# Altium schematic symbol library HW_HOLLAND_NCDM_MONITOR_R1.SchLib: 617 symbols (part 6 of 7)
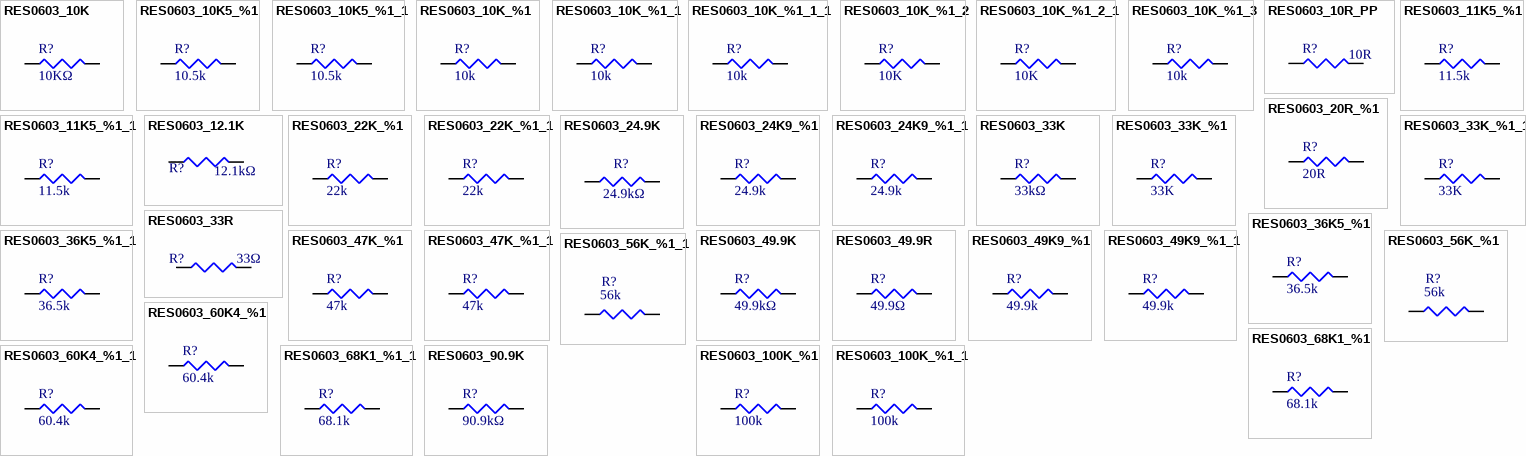
[diagram p24: symbols RES0603_10K to RES0603_100K_%1_1]

## RES0603_60K4_%1
designator R?, comment value 60.4k  (hidden comment: RES 60.4K OHM 1% 1/10W 0603)
60.4 kOhms ±1% 0.1W, 1/10W Chip Resistor 0603 (1608 Metric) Moisture Resistant Thick Film; Manufacturer Part Number: RC0603FR-0760K4L; Order Code: Digi: 311-60.4KHRTR-ND; Sirius Stock Code: *; LCSC Part Number: C165742; LCSC Manufacturer Part Number: RC0603FR-0760K4L
footprint SMR0603
pins: 1, 2

## RES0603_60K4_%1_1
designator R?, comment value 60.4k  (hidden comment: RES 60.4K OHM 1% 1/10W 0603)
60.4 kOhms ±1% 0.1W, 1/10W Chip Resistor 0603 (1608 Metric) Moisture Resistant Thick Film; Manufacturer Part Number: RC0603FR-0760K4L; Order Code: Digi: 311-60.4KHRTR-ND; Sirius Stock Code: *; LCSC Part Number: C165742; LCSC Manufacturer Part Number: RC0603FR-0760K4L
footprint SMR0603
pins: 1, 2

## RES0603_68K1_%1
designator R?, comment value 68.1k  (hidden comment: RES 68.1K OHM 1% 1/10W 0603)
68.1kΩ 100mW Thick Film Resistors ±1% 0603 Chip Resistor - Surface Mount ROHS; Manufacturer Part Number: 0603WAF6812T5E; Order Code: LCSC: C25976; Sirius Stock Code: *; LCSC Part Number: C25976; LCSC Manufacturer Part Number: 0603WAF6812T5E
footprint SMR0603
pins: 1, 2

## RES0603_68K1_%1_1
designator R?, comment value 68.1k  (hidden comment: RES 68.1K OHM 1% 1/10W 0603)
68.1kΩ 100mW Thick Film Resistors ±1% 0603 Chip Resistor - Surface Mount ROHS; Manufacturer Part Number: 0603WAF6812T5E; Order Code: LCSC: C25976; Sirius Stock Code: *; LCSC Part Number: C25976; LCSC Manufacturer Part Number: 0603WAF6812T5E
footprint SMR0603
pins: 1, 2

## RES0603_90.9K
designator R?, comment 90.9kΩ
90.9 kOhms ±1% 0.1W, 1/10W Chip Resistor 0603 (1608 Metric) Moisture Resistant Thick Film; Part Number: RC0603FR-1047KL; Manufacturer Part Number: RC0603FR-0790K9L; Manufacturer: Stackpole Electronics Inc; Tolerance: ±5%; Category 7542B8484461Ae85: Passive Components; Category 5A00970A6D5C81C7: Uncategorized; Category 5C6A91606D4187Ad: Resistors; Category Cd01000Bfc2916C6: Single Components; Symbol 0 0: Standard; Num Pins: 2; helpURL: https://upverter.com/upn/revision/974350d35a6c8a23/; ComponentLink2Description: Datasheet; Temperature: -55°C to +155°C; Package: 0603 (1608 metric); Supplier 2: Mouser; Price: 0.00379592162232; Supplier 1: Digi-Key; ComponentLink1URL: https://upverter.com/upn/revision/974350d35a6c8a23/; Supplier Part Number 1: 311-10KGRCT-ND; Value: 90.9kΩ; ComponentLink1Description: Upverter; ComponentLink2URL: http://www.yageo.com/documents/recent/PYu-RC_Group_51_RoHS_L_6.pdf; RoHS: TRUE; Mouser Part Number: 603-RC0603JR-0710KL; Ipc Land Pattern Name: RESC16080X45; Rated Power: 0.1W; Temperature Range High: +155°C; Octopart Part Number: 1fdcd61e8aa8c01b; Digikey Description: RES 10k Ohm ±5% 0.1W, 1/10W Chip Resistor 0603 (1608 Metric) Moisture Resistant Thick Film; Digikey Part Number: 311-10KGRCT-ND; Type: integrated circuit; Lead Free: yes; Temperature Range Low: -55°C
footprint R0603
pins: 1, 2

## RES0603_100K_%1
designator R?, comment value 100k  (hidden comment: RES 180K OHM 1% 1/10W 0603)
100 kOhms ±1% 0.1W, 1/10W Chip Resistor 0603 (1608 Metric) Moisture Resistant Thick Film; Manufacturer Part Number: RC0603FR-07100KL; Order Code: DIGI : 311-100KHRTR-ND; LCSC Manufacturer Part Number: RC0603FR-07100KL; LCSC Part Number: C123419
footprint SMR0603
pins: 1, 2

## RES0603_100K_%1_1
designator R?, comment value 100k  (hidden comment: RES 180K OHM 1% 1/10W 0603)
100 kOhms ±1% 0.1W, 1/10W Chip Resistor 0603 (1608 Metric) Moisture Resistant Thick Film; Manufacturer Part Number: RC0603FR-07100KL; Order Code: DIGI : 311-100KHRTR-ND; LCSC Manufacturer Part Number: RC0603FR-07100KL; LCSC Part Number: C123419
footprint SMR0603
pins: 1, 2

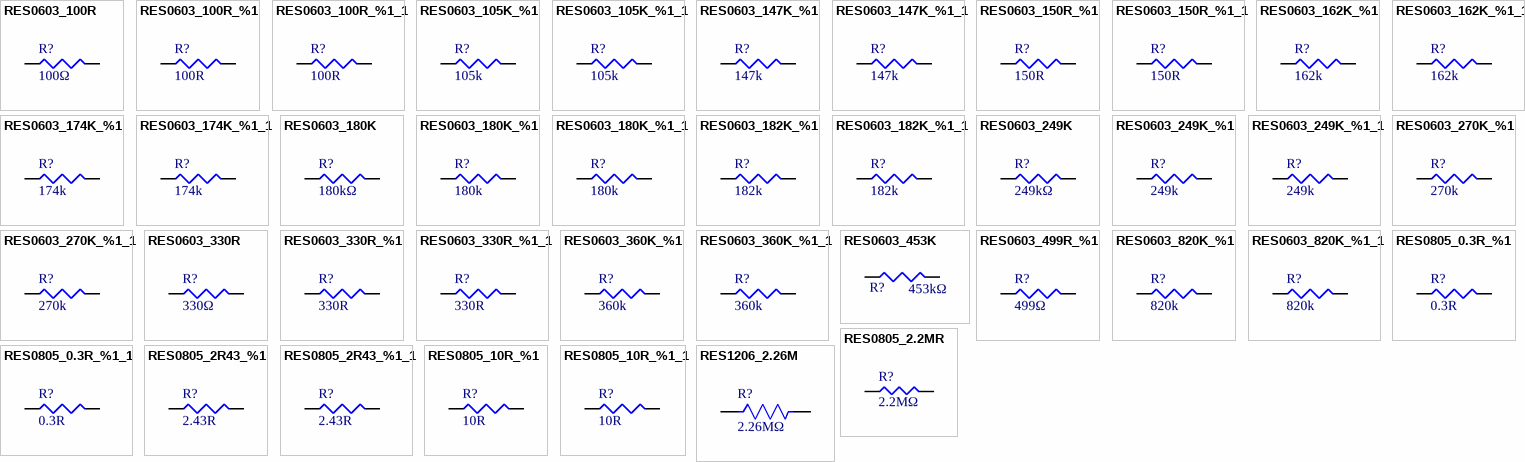
[diagram p14: symbols RES0603_100R to RES1206_2.26M]

## RES0603_100R
designator R?, comment 100Ω
100 Ohms ±1% 0.1W, 1/10W Chip Resistor 0603 (1608 Metric) Automotive AEC-Q200 Thick Film; Part Number: RC0603JR-0710KL; Manufacturer Part Number: RMCF0603FT100R; Manufacturer: YAGEO; Tolerance: ±5%; Category 7542B8484461Ae85: Passive Components; Category 5A00970A6D5C81C7: Uncategorized; Category 5C6A91606D4187Ad: Resistors; Category Cd01000Bfc2916C6: Single Components; Symbol 0 0: Standard; Num Pins: 2; Value: 100Ω; helpURL: https://upverter.com/upn/revision/974350d35a6c8a23/; ComponentLink2Description: Datasheet; Temperature: -55°C to +155°C; Package: 0603 (1608 metric); Supplier 2: Mouser; Price: 0.00379592162232; Supplier 1: Digi-Key; ComponentLink1URL: https://upverter.com/upn/revision/974350d35a6c8a23/; Supplier Part Number 1: 311-10KGRCT-ND; ComponentLink1Description: Upverter; ComponentLink2URL: http://www.yageo.com/documents/recent/PYu-RC_Group_51_RoHS_L_6.pdf; RoHS: TRUE; Mouser Part Number: 603-RC0603JR-0710KL; Ipc Land Pattern Name: RESC16080X45; Rated Power: 0.1W; Temperature Range High: +155°C; Octopart Part Number: 1fdcd61e8aa8c01b; Digikey Description: RES 10k Ohm ±5% 0.1W, 1/10W Chip Resistor 0603 (1608 Metric) Moisture Resistant Thick Film; Digikey Part Number: 311-10KGRCT-ND; Type: integrated circuit; Lead Free: yes; Temperature Range Low: -55°C
footprint R0603
pins: 1, 2

## RES0603_100R_%1
designator R?, comment value 100R  (hidden comment: RES 100 OHM 1% 1/10W 0603)
100 Ohms ±1% 0.1W, 1/10W Chip Resistor 0603 (1608 Metric) Moisture Resistant Thick Film; Manufacturer Part Number: RC0603FR-07100RL; Order Code: Digi: 311-100HRTR-ND; Sirius Stock Code: *; LCSC Part Number: C105588; LCSC Manufacturer Part Number: RC0603FR-07100RL
footprint SMR0603
pins: 1, 2

## RES0603_100R_%1_1
designator R?, comment value 100R  (hidden comment: RES 100 OHM 1% 1/10W 0603)
100 Ohms ±1% 0.1W, 1/10W Chip Resistor 0603 (1608 Metric) Moisture Resistant Thick Film; Manufacturer Part Number: RC0603FR-07100RL; Order Code: Digi: 311-100HRTR-ND; Sirius Stock Code: *; LCSC Part Number: C105588; LCSC Manufacturer Part Number: RC0603FR-07100RL
footprint SMR0603
pins: 1, 2

## RES0603_105K_%1
designator R?, comment value 105k  (hidden comment: RES 105K OHM 1% 1/10W 0603)
100mW Thick Film Resistors ±1% 105kΩ 0603 Chip Resistor - Surface Mount ROHS; Manufacturer Part Number: FRC0603F1053TS; Order Code: LCSC: C2933128; Sirius Stock Code: *; LCSC Part Number: C2933128; LCSC Manufacturer Part Number: FRC0603F1053TS
footprint SMR0603
pins: 1, 2

## RES0603_105K_%1_1
designator R?, comment value 105k  (hidden comment: RES 105K OHM 1% 1/10W 0603)
100mW Thick Film Resistors ±1% 105kΩ 0603 Chip Resistor - Surface Mount ROHS; Manufacturer Part Number: FRC0603F1053TS; Order Code: LCSC: C2933128; Sirius Stock Code: *; LCSC Part Number: C2933128; LCSC Manufacturer Part Number: FRC0603F1053TS
footprint SMR0603
pins: 1, 2

## RES0603_147K_%1
designator R?, comment value 147k  (hidden comment: RES 147K OHM 1% 1/10W 0603)
147kΩ 100mW Thick Film Resistors ±1% 0603 Chip Resistor - Surface Mount ROHS; Manufacturer Part Number: FRC0603F1473TS; Order Code: LCSC: C2998060; Sirius Stock Code: *; LCSC Part Number: C2998060; LCSC Manufacturer Part Number: FRC0603F1473TS
footprint SMR0603
pins: 1, 2

## RES0603_147K_%1_1
designator R?, comment value 147k  (hidden comment: RES 147K OHM 1% 1/10W 0603)
147kΩ 100mW Thick Film Resistors ±1% 0603 Chip Resistor - Surface Mount ROHS; Manufacturer Part Number: FRC0603F1473TS; Order Code: LCSC: C2998060; Sirius Stock Code: *; LCSC Part Number: C2998060; LCSC Manufacturer Part Number: FRC0603F1473TS
footprint SMR0603
pins: 1, 2

## RES0603_150R_%1
designator R?, comment value 150R  (hidden comment: RES 150 OHM 1% 1/10W 0603)
150 Ohms ±1% 0.1W, 1/10W Chip Resistor 0603 (1608 Metric) Moisture Resistant Thick Film; Manufacturer Part Number: RC0603FR-07150RL; Order Code: Digi: 311-150HRTR-ND; Sirius Stock Code: *; LCSC Part Number: C114608; LCSC Manufacturer Part Number: RC0603FR-07150RL
footprint SMR0603
pins: 1, 2

## RES0603_150R_%1_1
designator R?, comment value 150R  (hidden comment: RES 150 OHM 1% 1/10W 0603)
150 Ohms ±1% 0.1W, 1/10W Chip Resistor 0603 (1608 Metric) Moisture Resistant Thick Film; Manufacturer Part Number: RC0603FR-07150RL; Order Code: Digi: 311-150HRTR-ND; Sirius Stock Code: *; LCSC Part Number: C114608; LCSC Manufacturer Part Number: RC0603FR-07150RL
footprint SMR0603
pins: 1, 2

## RES0603_162K_%1
designator R?, comment value 162k  (hidden comment: RES 820K OHM 1% 1/10W 0603)
820 kOhms ±1% 0.1W, 1/10W Chip Resistor 0603 (1608 Metric) Moisture Resistant Thick Film; Manufacturer Part Number: FRC0603F1623TS; Order Code: LCSC: C2998114; Sirius Stock Code: *; LCSC Part Number: C2998114; LCSC Manufacturer Part Number: FRC0603F1623TS
footprint SMR0603
pins: 1, 2

## RES0603_162K_%1_1
designator R?, comment value 162k  (hidden comment: RES 820K OHM 1% 1/10W 0603)
820 kOhms ±1% 0.1W, 1/10W Chip Resistor 0603 (1608 Metric) Moisture Resistant Thick Film; Manufacturer Part Number: FRC0603F1623TS; Order Code: LCSC: C2998114; Sirius Stock Code: *; LCSC Part Number: C2998114; LCSC Manufacturer Part Number: FRC0603F1623TS
footprint SMR0603
pins: 1, 2

## RES0603_174K_%1
designator R?, comment value 174k  (hidden comment: RES 174K OHM 1% 1/10W 0603)
100mW Thick Film Resistors ±1% 174kΩ 0603 Chip Resistor - Surface Mount ROHS; Manufacturer Part Number: FRC0603F1743TS; Order Code: LCSC: C2933159; Sirius Stock Code: *; LCSC Part Number: C2933159; LCSC Manufacturer Part Number: FRC0603F1743TS
footprint SMR0603
pins: 1, 2

## RES0603_174K_%1_1
designator R?, comment value 174k  (hidden comment: RES 174K OHM 1% 1/10W 0603)
100mW Thick Film Resistors ±1% 174kΩ 0603 Chip Resistor - Surface Mount ROHS; Manufacturer Part Number: FRC0603F1743TS; Order Code: LCSC: C2933159; Sirius Stock Code: *; LCSC Part Number: C2933159; LCSC Manufacturer Part Number: FRC0603F1743TS
footprint SMR0603
pins: 1, 2

## RES0603_180K
designator R?, comment 180kΩ
180 kOhms ±1% 0.1W, 1/10W Chip Resistor 0603 (1608 Metric) Automotive AEC-Q200 Thick Film; Manufacturer Part Number: RMCF0603FT180K; Part Number: RC0603JR-0710KL; Manufacturer: YAGEO; Tolerance: ±5%; Category 7542B8484461Ae85: Passive Components; Category 5A00970A6D5C81C7: Uncategorized; Category 5C6A91606D4187Ad: Resistors; Category Cd01000Bfc2916C6: Single Components; Symbol 0 0: Standard; Num Pins: 2; Resistance: 330Ω; Value: 180kΩ; helpURL: https://upverter.com/upn/revision/974350d35a6c8a23/; ComponentLink2Description: Datasheet; Temperature: -55°C to +155°C; Package: 0603 (1608 metric); Supplier 2: Mouser; Price: 0.00379592162232; Supplier 1: Digi-Key; ComponentLink1URL: https://upverter.com/upn/revision/974350d35a6c8a23/; Supplier Part Number 1: 311-10KGRCT-ND; ComponentLink1Description: Upverter; ComponentLink2URL: http://www.yageo.com/documents/recent/PYu-RC_Group_51_RoHS_L_6.pdf; RoHS: TRUE; Mouser Part Number: 603-RC0603JR-0710KL; Ipc Land Pattern Name: RESC16080X45; Rated Power: 0.1W; Temperature Range High: +155°C; Octopart Part Number: 1fdcd61e8aa8c01b; Digikey Description: RES 10k Ohm ±5% 0.1W, 1/10W Chip Resistor 0603 (1608 Metric) Moisture Resistant Thick Film; Digikey Part Number: 311-10KGRCT-ND; Type: integrated circuit; Lead Free: yes; Temperature Range Low: -55°C
footprint R0603
pins: 1, 2

## RES0603_180K_%1
designator R?, comment value 180k  (hidden comment: RES 180K OHM 1% 1/10W 0603)
180 kOhms ±1% 0.1W, 1/10W Chip Resistor 0603 (1608 Metric) Moisture Resistant Thick Film; Manufacturer Part Number: RC0603FR-07180KL; Order Code: DIGI : 311-180KHRTR-ND; LCSC Manufacturer Part Number: RC0603FR-07180KL; LCSC Part Number: C123419
footprint SMR0603
pins: 1, 2

## RES0603_180K_%1_1
designator R?, comment value 180k  (hidden comment: RES 180K OHM 1% 1/10W 0603)
180 kOhms ±1% 0.1W, 1/10W Chip Resistor 0603 (1608 Metric) Moisture Resistant Thick Film; Manufacturer Part Number: RC0603FR-07180KL; Order Code: DIGI : 311-180KHRTR-ND; LCSC Manufacturer Part Number: RC0603FR-07180KL; LCSC Part Number: C123419
footprint SMR0603
pins: 1, 2

## RES0603_182K_%1
designator R?, comment value 182k  (hidden comment: RES 182K OHM 1% 1/10W 0603)
182 kOhms ±1% 0.1W, 1/10W Chip Resistor 0603 (1608 Metric) Moisture Resistant Thick Film; Manufacturer Part Number: RC0603FR-07182KL; Order Code: Digi: 311-182KHRTR-ND; Sirius Stock Code: *; LCSC Part Number: C163428; LCSC Manufacturer Part Number: RC0603FR-07182KL
footprint SMR0603
pins: 1, 2

## RES0603_182K_%1_1
designator R?, comment value 182k  (hidden comment: RES 182K OHM 1% 1/10W 0603)
182 kOhms ±1% 0.1W, 1/10W Chip Resistor 0603 (1608 Metric) Moisture Resistant Thick Film; Manufacturer Part Number: RC0603FR-07182KL; Order Code: Digi: 311-182KHRTR-ND; Sirius Stock Code: *; LCSC Part Number: C163428; LCSC Manufacturer Part Number: RC0603FR-07182KL
footprint SMR0603
pins: 1, 2

## RES0603_249K
designator R?, comment 249kΩ
249 kOhms ±1% 0.1W, 1/10W Chip Resistor 0603 (1608 Metric) Automotive AEC-Q200 Thick Film; Part Number: RC0603JR-0710KL; Manufacturer Part Number: RMCF0603FT249K; Manufacturer: YAGEO; Value: 10KΩ; Tolerance: ±5%; Category 7542B8484461Ae85: Passive Components; Category 5A00970A6D5C81C7: Uncategorized; Category 5C6A91606D4187Ad: Resistors; Category Cd01000Bfc2916C6: Single Components; Symbol 0 0: Standard; Num Pins: 2; helpURL: https://upverter.com/upn/revision/974350d35a6c8a23/; ComponentLink2Description: Datasheet; Temperature: -55°C to +155°C; Package: 0603 (1608 metric); Supplier 2: Mouser; Price: 0.00379592162232; Supplier 1: Digi-Key; ComponentLink1URL: https://upverter.com/upn/revision/974350d35a6c8a23/; Supplier Part Number 1: 311-10KGRCT-ND; ComponentLink1Description: Upverter; ComponentLink2URL: http://www.yageo.com/documents/recent/PYu-RC_Group_51_RoHS_L_6.pdf; RoHS: TRUE; Mouser Part Number: 603-RC0603JR-0710KL; Ipc Land Pattern Name: RESC16080X45; Rated Power: 0.1W; Temperature Range High: +155°C; Octopart Part Number: 1fdcd61e8aa8c01b; Digikey Description: RES 10k Ohm ±5% 0.1W, 1/10W Chip Resistor 0603 (1608 Metric) Moisture Resistant Thick Film; Digikey Part Number: 311-10KGRCT-ND; Type: integrated circuit; Lead Free: yes; Temperature Range Low: -55°C; Resistance: 10KΩ
footprint R0603
pins: 1, 2

## RES0603_249K_%1
designator R?, comment value 249k  (hidden comment: RES 249K OHM 1% 1/10W 0603)
249 kOhms ±1% 0.1W, 1/10W Chip Resistor 0603 (1608 Metric) Moisture Resistant Thick Film; Manufacturer Part Number: RC0603FR-07249KL; Order Code: Digi: 311-249KHRTR-ND; Sirius Stock Code: *; LCSC Part Number: C137763; LCSC Manufacturer Part Number: RC0603FR-07249KL
footprint SMR0603
pins: 1, 2

## RES0603_249K_%1_1
designator R?, comment value 249k  (hidden comment: RES 249K OHM 1% 1/10W 0603)
249 kOhms ±1% 0.1W, 1/10W Chip Resistor 0603 (1608 Metric) Moisture Resistant Thick Film; Manufacturer Part Number: RC0603FR-07249KL; Order Code: Digi: 311-249KHRTR-ND; Sirius Stock Code: *; LCSC Part Number: C137763; LCSC Manufacturer Part Number: RC0603FR-07249KL
footprint SMR0603
pins: 1, 2

## RES0603_270K_%1
designator R?, comment value 270k  (hidden comment: RES 270K OHM 1% 1/10W 0603)
270 kOhms ±1% 0.1W, 1/10W Chip Resistor 0603 (1608 Metric) Moisture Resistant Thick Film; Manufacturer Part Number: RC0603FR-07270KL; Order Code: Digi: 311-270KHRTR-ND; Sirius Stock Code: *; LCSC Part Number: C137755; LCSC Manufacturer Part Number: RC0603FR-07270KL
footprint SMR0603
pins: 1, 2

## RES0603_270K_%1_1
designator R?, comment value 270k  (hidden comment: RES 270K OHM 1% 1/10W 0603)
270 kOhms ±1% 0.1W, 1/10W Chip Resistor 0603 (1608 Metric) Moisture Resistant Thick Film; Manufacturer Part Number: RC0603FR-07270KL; Order Code: Digi: 311-270KHRTR-ND; Sirius Stock Code: *; LCSC Part Number: C137755; LCSC Manufacturer Part Number: RC0603FR-07270KL
footprint SMR0603
pins: 1, 2

## RES0603_330R
designator R?, comment 330Ω
330 Ohms ±1% 0.1W, 1/10W Chip Resistor 0603 (1608 Metric) Moisture Resistant Thick Film; Part Number: RC0603JR-0710KL; Manufacturer Part Number: RC0603FR-07330RL; Manufacturer: YAGEO; Tolerance: ±5%; Category 7542B8484461Ae85: Passive Components; Category 5A00970A6D5C81C7: Uncategorized; Category 5C6A91606D4187Ad: Resistors; Category Cd01000Bfc2916C6: Single Components; Symbol 0 0: Standard; Num Pins: 2; helpURL: https://upverter.com/upn/revision/974350d35a6c8a23/; ComponentLink2Description: Datasheet; Temperature: -55°C to +155°C; Package: 0603 (1608 metric); Supplier 2: Mouser; Price: 0.00379592162232; Supplier 1: Digi-Key; ComponentLink1URL: https://upverter.com/upn/revision/974350d35a6c8a23/; Supplier Part Number 1: 311-10KGRCT-ND; Value: 330Ω; ComponentLink1Description: Upverter; ComponentLink2URL: http://www.yageo.com/documents/recent/PYu-RC_Group_51_RoHS_L_6.pdf; RoHS: TRUE; Mouser Part Number: 603-RC0603JR-0710KL; Ipc Land Pattern Name: RESC16080X45; Rated Power: 0.1W; Temperature Range High: +155°C; Octopart Part Number: 1fdcd61e8aa8c01b; Digikey Description: RES 10k Ohm ±5% 0.1W, 1/10W Chip Resistor 0603 (1608 Metric) Moisture Resistant Thick Film; Digikey Part Number: 311-10KGRCT-ND; Type: integrated circuit; Lead Free: yes; Temperature Range Low: -55°C
footprint R0603
pins: 1, 2

## RES0603_330R_%1
designator R?, comment value 330R  (hidden comment: RES 330 OHM 1% 1/10W 0603)
330 Ohms ±1% 0.1W, 1/10W Chip Resistor 0603 (1608 Metric) Automotive AEC-Q200 Thick Film; Manufacturer Part Number: RMCF0603FT330R; LCSC Manufacturer Part Number: SCR0603F330R; Order Code: Digi: RMCF0603FT330RTR-ND; Sirius Stock Code: *; LCSC Part Number: C3016255
footprint RES0603 (RESISTOR 0603)
pins: 1, 2

## RES0603_330R_%1_1
designator R?, comment value 330R  (hidden comment: RES 330 OHM 1% 1/10W 0603)
330 Ohms ±1% 0.1W, 1/10W Chip Resistor 0603 (1608 Metric) Automotive AEC-Q200 Thick Film; Manufacturer Part Number: RMCF0603FT330R; LCSC Manufacturer Part Number: SCR0603F330R; Order Code: Digi: RMCF0603FT330RTR-ND; Sirius Stock Code: *; LCSC Part Number: C3016255
footprint RES0603 (RESISTOR 0603)
pins: 1, 2

## RES0603_360K_%1
designator R?, comment value 360k  (hidden comment: RES 270K OHM 1% 1/10W 0603)
360 kOhms ±1% 0.1W, 1/10W Chip Resistor 0603 (1608 Metric) Moisture Resistant Thick Film; Manufacturer Part Number: RC0603FR-07360KL; Order Code: Digi: 311-360KHRTR-ND; Sirius Stock Code: *; LCSC Part Number: C137740; LCSC Manufacturer Part Number: RC0603FR-07360KL
footprint SMR0603
pins: 1, 2

## RES0603_360K_%1_1
designator R?, comment value 360k  (hidden comment: RES 270K OHM 1% 1/10W 0603)
360 kOhms ±1% 0.1W, 1/10W Chip Resistor 0603 (1608 Metric) Moisture Resistant Thick Film; Manufacturer Part Number: RC0603FR-07360KL; Order Code: Digi: 311-360KHRTR-ND; Sirius Stock Code: *; LCSC Part Number: C137740; LCSC Manufacturer Part Number: RC0603FR-07360KL
footprint SMR0603
pins: 1, 2

## RES0603_453K
designator R?, comment 453kΩ
453 kOhms ±1% 0.1W, 1/10W Chip Resistor 0603 (1608 Metric) Moisture Resistant Thick Film; Part Number: RC0603FR-07453KL; Manufacturer Part Number: RC0603FR-07432KL; Manufacturer: YAGEO; Value: 24.9kΩ; Tolerance: ±5%; Category 7542B8484461Ae85: Passive Components; Category 5A00970A6D5C81C7: Uncategorized; Category 5C6A91606D4187Ad: Resistors; Category Cd01000Bfc2916C6: Single Components; Symbol 0 0: Standard; Num Pins: 2; helpURL: https://upverter.com/upn/revision/974350d35a6c8a23/; ComponentLink2Description: Datasheet; Temperature: -55°C to +155°C; Package: 0603 (1608 metric); Supplier 2: Mouser; Price: 0.00379592162232; Supplier 1: Digi-Key; ComponentLink1URL: https://upverter.com/upn/revision/974350d35a6c8a23/; Supplier Part Number 1: 311-10KGRCT-ND; ComponentLink1Description: Upverter; ComponentLink2URL: http://www.yageo.com/documents/recent/PYu-RC_Group_51_RoHS_L_6.pdf; RoHS: TRUE; Mouser Part Number: 603-RC0603JR-0710KL; Ipc Land Pattern Name: RESC16080X45; Rated Power: 0.1W; Temperature Range High: +155°C; Octopart Part Number: 1fdcd61e8aa8c01b; Digikey Description: RES 10k Ohm ±5% 0.1W, 1/10W Chip Resistor 0603 (1608 Metric) Moisture Resistant Thick Film; Digikey Part Number: 311-10KGRCT-ND; Type: integrated circuit; Lead Free: yes; Temperature Range Low: -55°C
footprint R0603
pins: 1, 2

## RES0603_499R_%1
designator R?, comment 499Ω
499 Ohms ±1% 0.1W, 1/10W Chip Resistor 0603 (1608 Metric) Moisture Resistant Thick Film; Manufacturer Part Number: CR0603-FX-2492ELF; Part Number: RC0603FR-07499RL; Manufacturer: YAGEO; Tolerance: ±5%; Category 7542B8484461Ae85: Passive Components; Category 5A00970A6D5C81C7: Uncategorized; Category 5C6A91606D4187Ad: Resistors; Category Cd01000Bfc2916C6: Single Components; Symbol 0 0: Standard; Num Pins: 2; Value: 499Ω; helpURL: https://upverter.com/upn/revision/974350d35a6c8a23/; ComponentLink2Description: Datasheet; Temperature: -55°C to +155°C; Package: 0603 (1608 metric); Supplier 2: Mouser; Price: 0.00379592162232; Supplier 1: Digi-Key; ComponentLink1URL: https://upverter.com/upn/revision/974350d35a6c8a23/; Supplier Part Number 1: 311-10KGRCT-ND; ComponentLink1Description: Upverter; ComponentLink2URL: http://www.yageo.com/documents/recent/PYu-RC_Group_51_RoHS_L_6.pdf; RoHS: TRUE; Mouser Part Number: 603-RC0603JR-0710KL; Ipc Land Pattern Name: RESC16080X45; Rated Power: 0.1W; Temperature Range High: +155°C; Octopart Part Number: 1fdcd61e8aa8c01b; Digikey Description: RES 10k Ohm ±5% 0.1W, 1/10W Chip Resistor 0603 (1608 Metric) Moisture Resistant Thick Film; Digikey Part Number: 311-10KGRCT-ND; Type: integrated circuit; Lead Free: yes; Temperature Range Low: -55°C
footprint R0603
pins: 1, 2

## RES0603_820K_%1
designator R?, comment value 820k  (hidden comment: RES 820K OHM 1% 1/10W 0603)
820 kOhms ±1% 0.1W, 1/10W Chip Resistor 0603 (1608 Metric) Moisture Resistant Thick Film; Manufacturer Part Number: RC0603FR-07820KL; Order Code: Digi: 311-820KHRTR-ND; Sirius Stock Code: *; LCSC Part Number: C141684; LCSC Manufacturer Part Number: RC0603FR-07820KL
footprint SMR0603
pins: 1, 2

## RES0603_820K_%1_1
designator R?, comment value 820k  (hidden comment: RES 820K OHM 1% 1/10W 0603)
820 kOhms ±1% 0.1W, 1/10W Chip Resistor 0603 (1608 Metric) Moisture Resistant Thick Film; Manufacturer Part Number: RC0603FR-07820KL; Order Code: Digi: 311-820KHRTR-ND; Sirius Stock Code: *; LCSC Part Number: C141684; LCSC Manufacturer Part Number: RC0603FR-07820KL
footprint SMR0603
pins: 1, 2

## RES0805_0.3R_%1
designator R?, comment value 0.3R  (hidden comment: 125mW Thick Film Resistors ±1% 300mΩ 0805 Chip Resistor - Surface Mount ROHS)
Manufacturer Part Number: 0805W8F300LT5E; Order Code: LCSC: C247157; LCSC Manufacturer Part Number: 0805W8F300LT5E; LCSC Part Number: C247157
footprint SMR0805
pins: 1, 2

## RES0805_0.3R_%1_1
designator R?, comment value 0.3R  (hidden comment: 125mW Thick Film Resistors ±1% 300mΩ 0805 Chip Resistor - Surface Mount ROHS)
Manufacturer Part Number: 0805W8F300LT5E; Order Code: LCSC: C247157; LCSC Manufacturer Part Number: 0805W8F300LT5E; LCSC Part Number: C247157
footprint SMR0805
pins: 1, 2

## RES0805_2.2MR
designator R?, comment 2.2MΩ
2.2 MOhms ±0.1% 0.125W, 1/8W Chip Resistor 0805 (2012 Metric) Anti-Sulfur, Automotive AEC-Q200 Thin Film; Manufacturer_Name: Susumu; Manufacturer_Part_Number: RG2012P-225-B-T5; Datasheet Link: https://4donline.ihs.com/images/VipMasterIC/IC/YAGO/YAGO-S-A0010774850/YAGO-S-A0010774850-1.pdf?hkey=6D3A4C79FDBF58556ACFDE234799DDF0; Height: 0.6mm; LCSC Part Number: C114572
footprint RES0805
pins: 1, 2

## RES0805_2R43_%1
designator R?, comment value 2.43R  (hidden comment: 125mW Thick Film Resistors ±1% 2.43Ω 0805 Chip Resistor - Surface Mount ROHS)
Manufacturer Part Number: FRC0805F2R43TS; Order Code: LCSC: C2933405; LCSC Manufacturer Part Number: FRC0805F2R43TS; LCSC Part Number: C2933405
footprint SMR0805
pins: 1, 2

## RES0805_2R43_%1_1
designator R?, comment value 2.43R  (hidden comment: 125mW Thick Film Resistors ±1% 2.43Ω 0805 Chip Resistor - Surface Mount ROHS)
Manufacturer Part Number: FRC0805F2R43TS; Order Code: LCSC: C2933405; LCSC Manufacturer Part Number: FRC0805F2R43TS; LCSC Part Number: C2933405
footprint SMR0805
pins: 1, 2

## RES0805_10R_%1
designator R?, comment value 10R  (hidden comment: 125mW Thick Film Resistors ±1% 10Ω 0805 Chip Resistor - Surface Mount ROHS)
Manufacturer Part Number: 0805W8F100JT5E; Order Code: LCSC: C17415; LCSC Manufacturer Part Number: 0805W8F100JT5E; LCSC Part Number: C17415
footprint SMR0805
pins: 1, 2

## RES0805_10R_%1_1
designator R?, comment value 10R  (hidden comment: 125mW Thick Film Resistors ±1% 10Ω 0805 Chip Resistor - Surface Mount ROHS)
Manufacturer Part Number: 0805W8F100JT5E; Order Code: LCSC: C17415; LCSC Manufacturer Part Number: 0805W8F100JT5E; LCSC Part Number: C17415
footprint SMR0805
pins: 1, 2

## RES1206_2.26M
designator R?, comment 2.26MΩ
2.26 MOhms ±1% 0.25W, 1/4W Chip Resistor 1206 (3216 Metric) Moisture Resistant Thick Film; Manufacturer Part Number: RC1206FR-072M26L; Manufacturer: YAGEO; Value: 2.26MΩ
footprint RES1206
pins: 1, 2

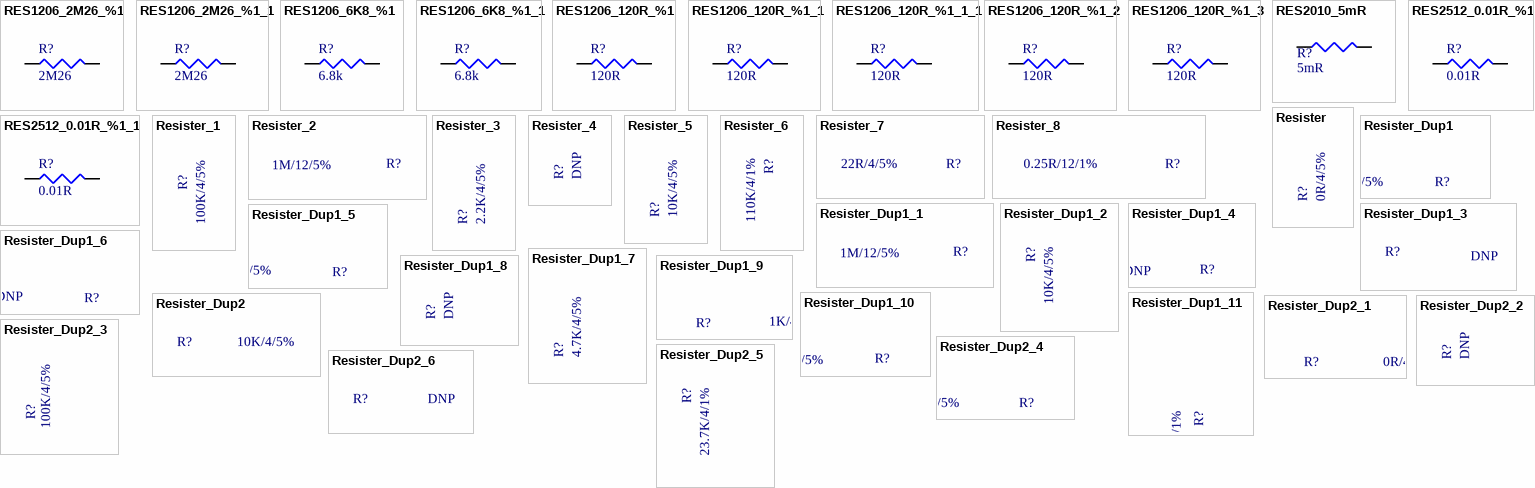
[diagram p15: symbols RES1206_2M26_%1 to Resister_Dup2_6]

## RES1206_2M26_%1
designator R?, comment value 2M26  (hidden comment: RES 2.26M OHM 1% 1/4W 1206)
2.26 MOhms ±1% 0.25W, 1/4W Chip Resistor 1206 (3216 Metric) Moisture Resistant Thick Film; Manufacturer Part Number: RC1206FR-072M26L; Order Code: Digi: 311-2.26MFRTR-ND; LCSC Part Number: C488699; LCSC Manufacturer Part Number: RC1206FR-072M26L
footprint RES1206 (RESISTOR 1206)
pins: 1, 2

## RES1206_2M26_%1_1
designator R?, comment value 2M26  (hidden comment: RES 2.26M OHM 1% 1/4W 1206)
2.26 MOhms ±1% 0.25W, 1/4W Chip Resistor 1206 (3216 Metric) Moisture Resistant Thick Film; Manufacturer Part Number: RC1206FR-072M26L; Order Code: Digi: 311-2.26MFRTR-ND; LCSC Part Number: C488699; LCSC Manufacturer Part Number: RC1206FR-072M26L
footprint RES1206 (RESISTOR 1206)
pins: 1, 2

## RES1206_6K8_%1
designator R?, comment value 6.8k  (hidden comment: RES 6.8K OHM 1% 1/4W 1206)
6.8 kOhms ±1% 0.25W, 1/4W Chip Resistor 1206 (3216 Metric) Moisture Resistant Thick Film; Manufacturer Part Number: RC1206FR-076K8L; Order Code: Digi: 311-6.80KFRTR-ND; Sirius Stock Code: *; LCSC Manufacturer Part Number: RC1206FR-076K8L; LCSC Part Number: C246053
footprint SMR1206
footprint RES1206
pins: 1, 2

## RES1206_6K8_%1_1
designator R?, comment value 6.8k  (hidden comment: RES 6.8K OHM 1% 1/4W 1206)
6.8 kOhms ±1% 0.25W, 1/4W Chip Resistor 1206 (3216 Metric) Moisture Resistant Thick Film; Manufacturer Part Number: RC1206FR-076K8L; Order Code: Digi: 311-6.80KFRTR-ND; Sirius Stock Code: *; LCSC Manufacturer Part Number: RC1206FR-076K8L; LCSC Part Number: C246053
footprint SMR1206
footprint RES1206
pins: 1, 2

## RES1206_120R_%1
designator R?, comment value 120R  (hidden comment: RES SMD 120 OHM 1% 1/4W 1206)
120 Ohms ±1% 0.25W, 1/4W Chip Resistor 1206 (3216 Metric) Automotive AEC-Q200, Moisture Resistant Thick Film; Manufacturer Part Number: AC1206FR-07120RL; Order Code: Digi: YAG3810TR-ND; Sirius Stock Code: *; LCSC Manufacturer Part Number: AC1206FR-07120RL; LCSC Part Number: C229293
footprint SMR1206
footprint RES1206
pins: 1, 2

## RES1206_120R_%1_1
designator R?, comment value 120R  (hidden comment: RES SMD 120 OHM 1% 1/4W 1206)
120 Ohms ±1% 0.25W, 1/4W Chip Resistor 1206 (3216 Metric) Automotive AEC-Q200, Moisture Resistant Thick Film; Manufacturer Part Number: AC1206FR-07120RL; Order Code: Digi: YAG3810TR-ND; Sirius Stock Code: *; LCSC Manufacturer Part Number: AC1206FR-07120RL; LCSC Part Number: C229293
footprint RES1206
pins: 1, 2

## RES1206_120R_%1_1_1
designator R?, comment value 120R  (hidden comment: RES SMD 120 OHM 1% 1/4W 1206)
120 Ohms ±1% 0.25W, 1/4W Chip Resistor 1206 (3216 Metric) Automotive AEC-Q200, Moisture Resistant Thick Film; Manufacturer Part Number: AC1206FR-07120RL; Order Code: Digi: YAG3810TR-ND; Sirius Stock Code: *; LCSC Manufacturer Part Number: AC1206FR-07120RL; LCSC Part Number: C229293
footprint RES1206
pins: 1, 2

## RES1206_120R_%1_2
designator R?, comment value 120R  (hidden comment: RES SMD 120 OHM 1% 1/4W 1206)
120 Ohms ±1% 0.25W, 1/4W Chip Resistor 1206 (3216 Metric) Automotive AEC-Q200, Moisture Resistant Thick Film; Manufacturer Part Number: AC1206FR-07120RL; Order Code: Digi: YAG3810TR-ND; Sirius Stock Code: *; LCSC Manufacturer Part Number: AC1206FR-07120RL; LCSC Part Number: C229293
footprint SMR1206
footprint RES1206
pins: 1, 2

## RES1206_120R_%1_3
designator R?, comment value 120R  (hidden comment: RES SMD 120 OHM 1% 1/2W 1206)
120 Ohms ±1% 0.5W, 1/2W Chip Resistor 1206 (3216 Metric) Thick Film; Manufacturer Part Number: CRGH1206F120R; Order Code: Digi: A129547TR-ND; Sirius Stock Code: *
footprint RES1206
pins: 1, 2

## RES2010_5mR
designator R?, comment 5mR
5 mOhms ±1% 2W Chip Resistor 2010 (5025 Metric) Anti-Sulfur, Automotive AEC-Q200, Current Sense, Moisture Resistant, Pulse Withstanding Metal Element; P/N: WSLP20105L000FEA; Order Code: DIGI : 541-10107-1-ND; Value: 5mR 2W
footprint RES2010
pins: 1, 2

## RES2512_0.01R_%1
designator R?, comment value 0.01R  (hidden comment: RES 0.01 OHM 1% 2W 2512)
10 mOhms ±1% 2W Chip Resistor 2512 (6432 Metric) Automotive AEC-Q200, Current Sense, Moisture Resistant Metal Foil; Manufacturer Part Number: PE2512FKE7W0R01L; Order Code: Digi: YAG2167TR-ND; Sirius Stock Code: *; LCSC Part Number: C875720; LCSC Manufacturer Part Number: PE2512FKE7W0R01L
footprint Bourns_CRE2512-R005-R009_MFG
pins: 1, 2

## RES2512_0.01R_%1_1
designator R?, comment value 0.01R  (hidden comment: RES 0.01 OHM 1% 2W 2512)
10 mOhms ±1% 2W Chip Resistor 2512 (6432 Metric) Automotive AEC-Q200, Current Sense, Moisture Resistant Metal Foil; Manufacturer Part Number: PE2512FKE7W0R01L; Order Code: Digi: YAG2167TR-ND; Sirius Stock Code: *; LCSC Part Number: C875720; LCSC Manufacturer Part Number: PE2512FKE7W0R01L
footprint Bourns_CRE2512-R005-R009_MFG
pins: 1, 2

## Resister
designator R?, comment 0R/4/5%
Thick Film Resistor,0R,+/-5%,1/16W,-55¡æ~155¡æ,SMD,0402,Fenghua; Manufacturer P/N: RC-02000JT; PCB Footprint: R0402; Myir P/N: 20301.00186; Datasheet: FHsheet_2018-07-30.PDF; Reserve Value: 0R; Manufacturer: Fenghua; Part Type: Thick Film Resistor
footprint R0402

## Resister_1
designator R?, comment 100K/4/5%
Thick Film Resistor,100K,+/-5%,,1/16W,-55¡ãC ~ 155¡ãC,SMD,0402,Fenghua; Manufacturer P/N: RC-02W104JT; PCB Footprint: R0402; Myir P/N: 20301.00210; Part Type: Thick Film Resistor; Manufacturer: Fenghua; Reserve Value: 100K; Datasheet: FHsheet_2018-07-30.PDF
footprint R0402

## Resister_2
designator R?, comment 1M/12/5%
Thick Film Resistor,1M,+/-5%,1/4W,-55¡ãC ~ 155¡ãC,SMD,1206,Fenghua; Manufacturer P/N: RS-06K105JT; PCB Footprint: R1206; Myir P/N: 20301.00226; Datasheet: FHsheet_2018-07-30.PDF; Reserve Value: 1M; Manufacturer: Fenghua; Part Type: Thick Film Resistor
footprint R1206

## Resister_3
designator R?, comment 2.2K/4/5%
Thick Film Resistor,2.2K,+/-5%,1/16W,-55¡æ~155¡æ,SMD,0402,Fenghua; Manufacturer P/N: RC-02W222JT; Myir P/N: 20301.00195; PCB Footprint: R0402; Datasheet: FHsheet_2018-07-30.PDF; Reserve Value: 2.2K; Manufacturer: Fenghua; Part Type: Thick Film Resistor
footprint R0402

## Resister_4
designator R?, comment DNP
Thick Film Resistor,10K,+/-5%,1/16W,-55¡ãC ~ 155¡ãC,SMD,0402,Fenghua; Manufacturer P/N: RC-02W103JT; Myir P/N: 20301.00199; PCB Footprint: R0402; Datasheet: FHsheet_2018-07-30.PDF; Reserve Value: 10K; Manufacturer: Fenghua; Part Type: Thick Film Resistor
footprint R0402

## Resister_5
designator R?, comment 10K/4/5%
Thick Film Resistor,10K,+/-5%,1/16W,-55¡ãC ~ 155¡ãC,SMD,0402,Fenghua; Manufacturer P/N: RC-02W103JT; Myir P/N: 20301.00199; PCB Footprint: R0402; Datasheet: FHsheet_2018-07-30.PDF; Reserve Value: 10K; Manufacturer: Fenghua; Part Type: Thick Film Resistor
footprint R0402

## Resister_6
designator R?, comment 110K/4/1%
Thick Film Resistor,110K,1%,1/16W ,-55 ¡ãC ~155¡ãC ,0402,Fenghua; Manufacturer P/N: RC-02W1103FT; Myir P/N: 20301.00280; PCB Footprint: R0402; Datasheet: FHsheet_2018-07-30.PDF; Reserve Value: 110K; Manufacturer: Fenghua; Part Type: Thick Film Resistor
footprint R0402

## Resister_7
designator R?, comment 22R/4/5%
Thick Film Resistor,22R,+/-5%,1/16W,-55¡ãC ~ 155¡ãC,SMD,0402,Fenghua; Manufacturer P/N: RC-02W220JT; PCB Footprint: R0402; Myir P/N: 20301.00187; Part Type: Thick Film Resistor; Manufacturer: Fenghua; Reserve Value: 22R; Datasheet: FH¹æ¸ñÊé_2018-07-30.pdf
footprint R0402

## Resister_8
designator R?, comment 0.25R/12/1%
Thick Film Resistor,0.25R,+/-1%,1/4W,-55¡ãC ~ 155¡ãC,SMD,1206,Fenghua; Manufacturer P/N: RS-06MR250FT; Myir P/N: 20301.80403; PCB Footprint: R1206; Part Type: Thick Film Resistor; Manufacturer: Fenghua; Reserve Value: 0.25R; Datasheet: FHsheet_2018-07-30.PDF
footprint R1206

## Resister_Dup1
designator R?, comment 100K/4/5%
Thick Film Resistor,100K,+/-5%,,1/16W,-55¡ãC ~ 155¡ãC,SMD,0402,Fenghua; Manufacturer P/N: RC-02W104JT; Myir P/N: 20301.00210; PCB Footprint: R0402; Datasheet: FHsheet_2018-07-30.PDF; Reserve Value: 100K; Manufacturer: Fenghua; Part Type: Thick Film Resistor
footprint R0402

## Resister_Dup1_1
designator R?, comment 1M/12/5%
Thick Film Resistor,1M,+/-5%,1/4W,-55¡ãC ~ 155¡ãC,SMD,1206,Fenghua; Manufacturer P/N: RS-06K105JT; Myir P/N: 20301.00226; PCB Footprint: R1206; Part Type: Thick Film Resistor; Manufacturer: Fenghua; Reserve Value: 1M; Datasheet: FH¹æ¸ñÊé_2018-07-30.pdf
footprint R1206

## Resister_Dup1_2
designator R?, comment 10K/4/5%
Thick Film Resistor,10K,+/-5%,1/16W,-55¡ãC ~ 155¡ãC,SMD,0402,Fenghua; Manufacturer P/N: RC-02W103JT; Myir P/N: 20301.00199; PCB Footprint: R0402; Datasheet: FH¹æ¸ñÊé_2018-07-30.pdf; Reserve Value: 10K; Manufacturer: Fenghua; Part Type: Thick Film Resistor
footprint R0402

## Resister_Dup1_3
designator R?, comment DNP
Thick Film Resistor,10K,+/-5%,1/16W,-55¡ãC ~ 155¡ãC,SMD,0402,Fenghua; Manufacturer P/N: RC-02W103JT; Myir P/N: 20301.00199; PCB Footprint: R0402; Datasheet: FH¹æ¸ñÊé_2018-07-30.pdf; Reserve Value: 10K; Manufacturer: Fenghua; Part Type: Thick Film Resistor
footprint R0402

## Resister_Dup1_4
designator R?, comment DNP
Thick Film Resistor,1.5K,+/-5%,1/16W,-55¡ãC ~ 155¡ãC,SMD,0402,Fenghua; Manufacturer P/N: RC-02W152JT; Myir P/N: 20301.00194; PCB Footprint: R0402; Datasheet: FH¹æ¸ñÊé_2018-07-30.pdf; Reserve Value: 1.5K; Manufacturer: Fenghua; Part Type: Thick Film Resistor
footprint R0402

## Resister_Dup1_5
designator R?, comment 0R/4/5%
Thick Film Resistor,0R,+/-5%,1/16W,-55¡æ~155¡æ,SMD,0402,Fenghua; Manufacturer P/N: RC-02000JT; Myir P/N: 20301.00186; PCB Footprint: R0402; Part Type: Thick Film Resistor; Manufacturer: Fenghua; Reserve Value: 0R; Datasheet: FHsheet_2018-07-30.PDF
footprint R0402

## Resister_Dup1_6
designator R?, comment DNP
Thick Film Resistor,0R,+/-5%,1/16W,-55¡ãC ~ 155¡ãC,SMD,0402,Fenghua; Manufacturer P/N: RC-02000JT; PCB Footprint: R0402; Myir P/N: 20301.00186; Datasheet: FH¹æ¸ñÊé_2018-07-30.pdf; Reserve Value: 0R; Manufacturer: Fenghua; Part Type: Thick Film Resistor
footprint R0402

## Resister_Dup1_7
designator R?, comment 4.7K/4/5%
Thick Film Resistor,4.7K,+/-5%,1/16W,-55¡ãC ~ 155¡ãC,SMD,0402,Fenghua; Manufacturer P/N: RC-02W472JT; Myir P/N: 20301.80393; PCB Footprint: R0402; Datasheet: FH¹æ¸ñÊé_2018-07-30.pdf; Reserve Value: 4.7K; Manufacturer: Fenghua; Part Type: Thick Film Resistor
footprint R0402

## Resister_Dup1_8
designator R?, comment DNP
Thick Film Resistor,4.7K,+/-5%,1/16W,-55¡ãC ~ 155¡ãC,SMD,0402,Fenghua; Manufacturer P/N: RC-02W472JT; Myir P/N: 20301.80393; PCB Footprint: R0402; Part Type: Thick Film Resistor; Manufacturer: Fenghua; Reserve Value: 4.7K; Datasheet: FH¹æ¸ñÊé_2018-07-30.pdf
footprint R0402

## Resister_Dup1_9
designator R?, comment 1K/4/5%
Thick Film Resistor,1K,+/-5%,1/16W,-55¡ãC ~ 155¡ãC,SMD,0402,Fenghua; Manufacturer P/N: RC-02W102JT; Myir P/N: 20301.80389; PCB Footprint: R0402; Part Type: Thick Film Resistor; Manufacturer: Fenghua; Reserve Value: 1K; Datasheet: FH¹æ¸ñÊé_2018-07-30.pdf
footprint R0402

## Resister_Dup1_10
designator R?, comment 1.5K/4/5%
Thick Film Resistor,1.5K,+/-5%,1/16W,-55¡ãC ~ 155¡ãC,SMD,0402,Fenghua; Manufacturer P/N: RC-02W152JT; Myir P/N: 20301.00194; PCB Footprint: R0402; Part Type: Thick Film Resistor; Manufacturer: Fenghua; Reserve Value: 1.5K; Datasheet: FH¹æ¸ñÊé_2018-07-30.pdf
footprint R0402

## Resister_Dup1_11
designator R?, comment 2.49K/4/1%
Thick Film Resistor,2.49K,+/- 1%,1/16W,-55¡ãC ~ 155¡ãC,SMD,0402,Fenghua; Manufacturer P/N: RC-02W2491FT; Myir P/N: 20301.00249; PCB Footprint: R0402; Datasheet: FH¹æ¸ñÊé_2018-07-30.pdf; Reserve Value: 2.49K; Manufacturer: Fenghua; Part Type: Thick Film Resistor
footprint R0402

## Resister_Dup2
designator R?, comment 10K/4/5%
Thick Film Resistor,10K,+/-5%,1/16W,-55¡ãC ~ 155¡ãC,SMD,0402,Fenghua; Manufacturer P/N: RC-02W103JT; Myir P/N: 20301.00199; PCB Footprint: R0402; Datasheet: FH¹æ¸ñÊé_2018-07-30.pdf; Reserve Value: 10K; Manufacturer: Fenghua; Part Type: Thick Film Resistor
footprint R0402

## Resister_Dup2_1
designator R?, comment 0R/4/5%
Thick Film Resistor,0R,+/-5%,1/16W,-55¡æ~155¡æ,SMD,0402,Fenghua; Manufacturer P/N: RC-02000JT; Myir P/N: 20301.00186; PCB Footprint: R0402; Part Type: Thick Film Resistor; Manufacturer: Fenghua; Reserve Value: 0R; Datasheet: FHsheet_2018-07-30.PDF
footprint R0402

## Resister_Dup2_2
designator R?, comment DNP
Thick Film Resistor,10K,+/-5%,1/16W,SMD,0402,UR; Manufacturer P/N: 0402WGJ0103TCE; Myir P/N: 2030180215; PCB Footprint: R0402; Part Type: Thick Film Resistor; Manufacturer: UR; Reserve Value: 10K; Datasheet: ºñÉù¹æ¸ñÊé (1).pdf
footprint R0402

## Resister_Dup2_3
designator R?, comment 100K/4/5%
Thick Film Resistor,100K,+/-5%,,1/16W,-55¡ãC ~ 155¡ãC,SMD,0402,Fenghua; Manufacturer P/N: RC-02W104JT; Myir P/N: 20301.00210; PCB Footprint: R0402; Part Type: Thick Film Resistor; Manufacturer: Fenghua; Reserve Value: 100K; Datasheet: FH¹æ¸ñÊé_2018-07-30.pdf
footprint R0402

## Resister_Dup2_4
designator R?, comment 1K/4/5%
Thick Film Resistor,1K,+/-5%,1/16W,-55¡ãC ~ 155¡ãC,SMD,0402,Fenghua; Manufacturer P/N: RC-02W102JT; Myir P/N: 20301.80389; PCB Footprint: R0402; Datasheet: FH¹æ¸ñÊé_2018-07-30.pdf; Reserve Value: 1K; Manufacturer: Fenghua; Part Type: Thick Film Resistor
footprint R0402

## Resister_Dup2_5
designator R?, comment 23.7K/4/1%
Thick Film Resistor,23.7K,+/-1%,1/16W,-55¡ãC ~ 155¡ãC,SMD,0402,Fenghua; Manufacturer P/N: RC-02W2372FT; Myir P/N: 20301.00202; PCB Footprint: R0402; Part Type: Thick Film Resistor; Manufacturer: Fenghua; Reserve Value: 23.7K; Datasheet: FH¹æ¸ñÊé_2018-07-30.pdf
footprint R0402

## Resister_Dup2_6
designator R?, comment DNP
Thick Film Resistor,10K,+/-5%,1/16W,-55¡ãC ~ 155¡ãC,SMD,0402,Fenghua; Manufacturer P/N: RC-02W103JT; PCB Footprint: R0402; Myir P/N: 20301.00199; Part Type: Thick Film Resistor; Manufacturer: Fenghua; Reserve Value: 10K; Datasheet: FH¹æ¸ñÊé_2018-07-30.pdf
footprint R0402

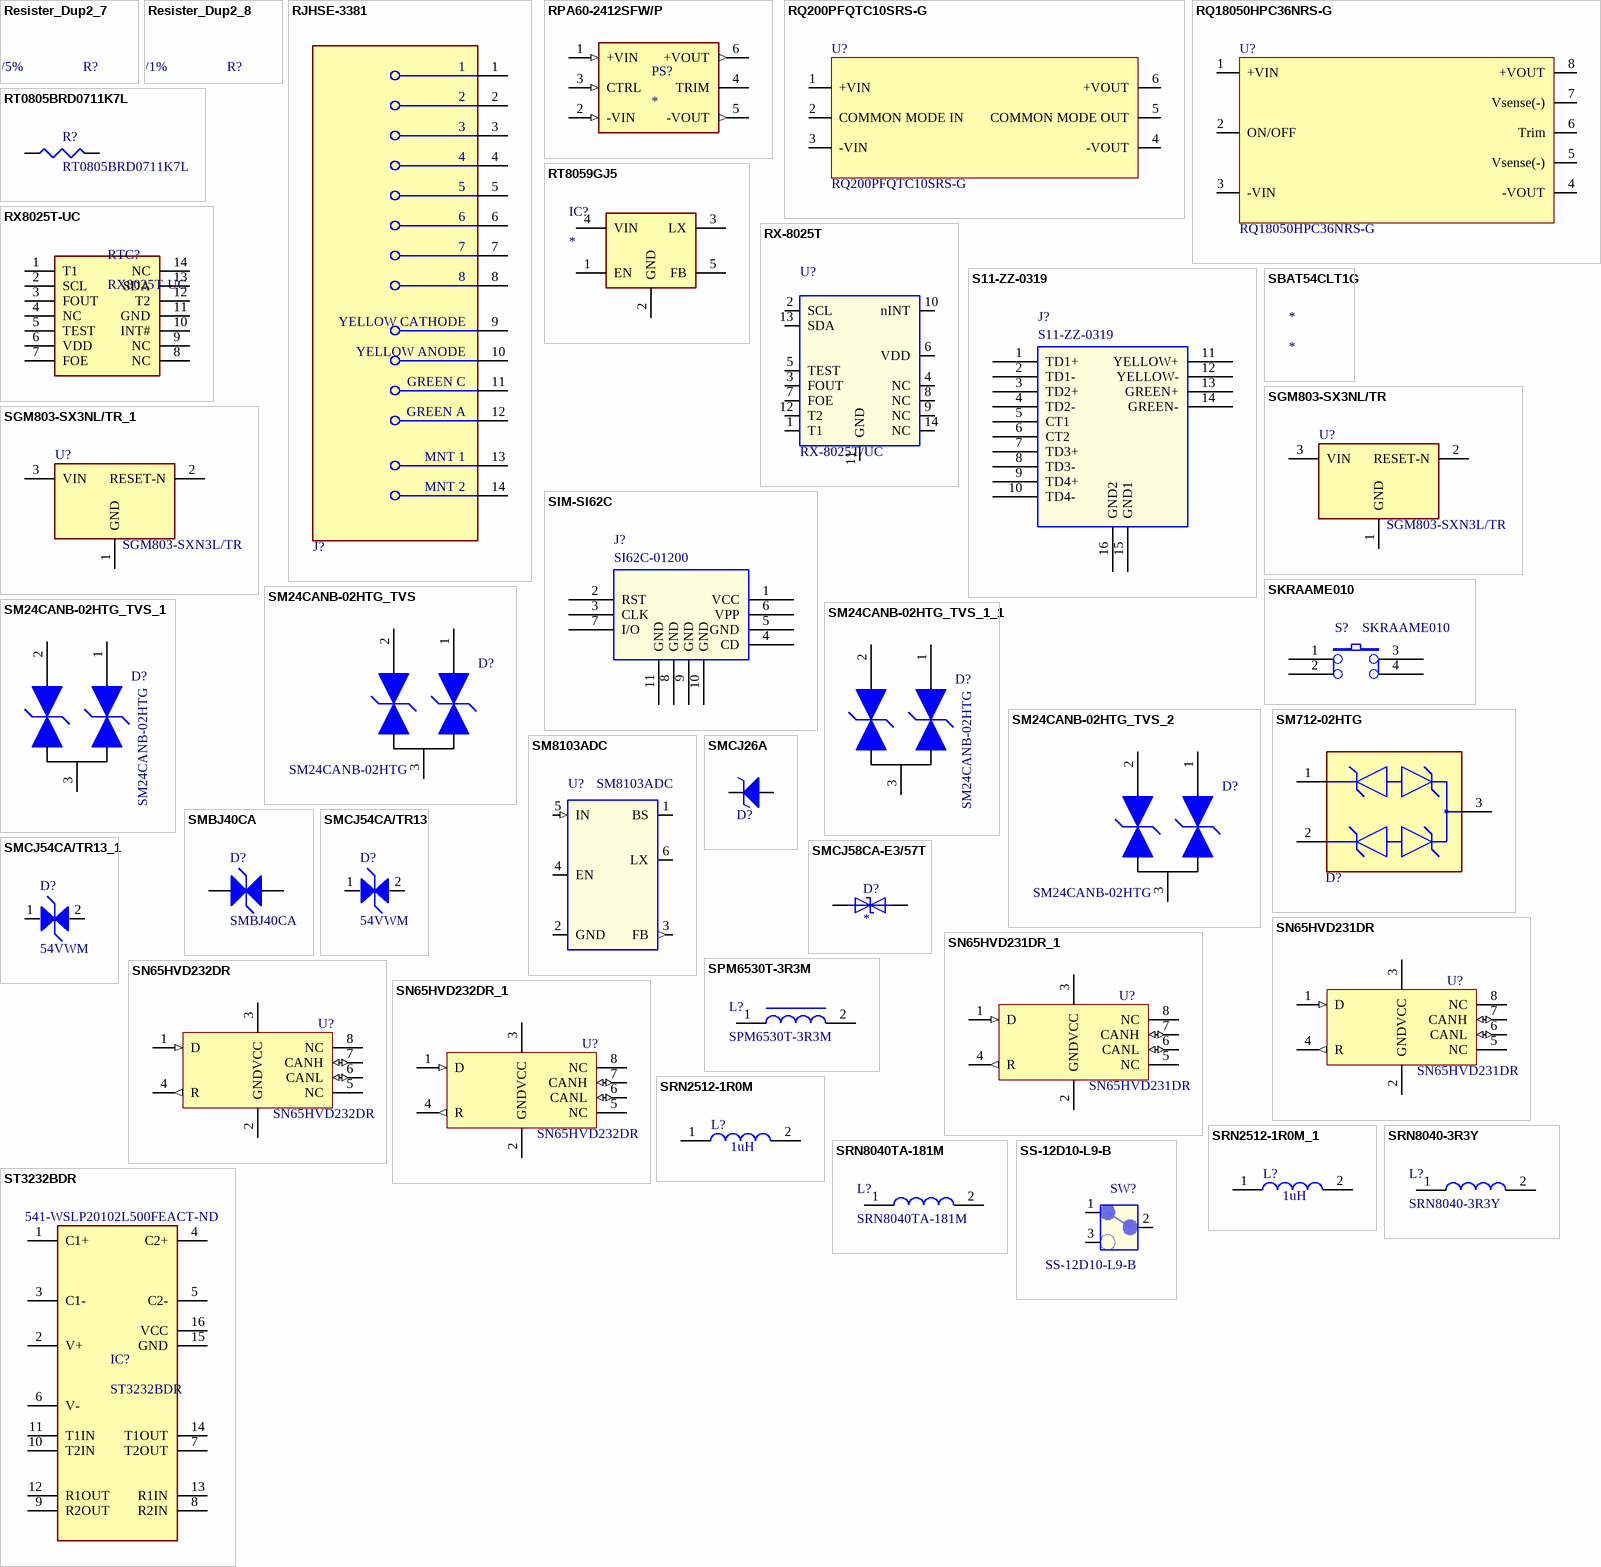
[diagram p16: symbols Resister_Dup2_7 to ST3232BDR]

## Resister_Dup2_7
designator R?, comment 4.7K/4/5%
Thick Film Resistor,4.7K,+/-5%,1/16W,-55¡ãC ~ 155¡ãC,SMD,0402,Fenghua; Manufacturer P/N: RC-02W472JT; PCB Footprint: R0402; Myir P/N: 20301.80393; Datasheet: FHsheet_2018-07-30.PDF; Reserve Value: 4.7K; Manufacturer: Fenghua; Part Type: Thick Film Resistor
footprint R0402

## Resister_Dup2_8
designator R?, comment 4.99k/4/1%
Thick Film Resistor,4.99K,+/-1%,,1/16W,-55¡ãC ~ 155¡ãC,,SMD,0402,Fenghua; Manufacturer P/N: RC-02W4991FT; PCB Footprint: R0402; Myir P/N: 20301.80442; Datasheet: FHsheet_2018-07-30.PDF; Reserve Value: 4.99K; Manufacturer: Fenghua; Part Type: Thick Film Resistor
footprint R0402

## RJHSE-3381
designator J?  (value not drawn)
Jack Modular Connector 8p8c (RJ45, Ethernet) Vertical Shielded; Manufacturer: Amphenol ICC (Commercial Products); Manufacturer Part Number: RJHSE-3381
footprint Amphenol_0_MFG
pins: 1, 2, 3, 4, 5, 6, 7, 8, 9 YELLOW CATHODE, 10 YELLOW ANODE, 11 GREEN C, 12 GREEN A, 13 MNT 1, 14 MNT 2

## RPA60-2412SFW/P
designator PS?
60W DC/DC-Converter 'POWERLINE' 2 x1 1.5kV reg 4: ; V. In: 9-36; V. Out: 12; mA. Out: 5000; Manufacturer: Recom; Manufacturer Part Number: RPA60-2412SFW/P; Supplier 1: Digikey; RoHS: Yes; Category: Board Mount Modules; Stock 1: 3612; Pricing 1: 1=68.75, 5=66.14, 10=65.618, 25=63.5352, 50=60.4106, 100=56.2444 (USD); ComponentLink1URL: https://datasheet.octopart.com/RPA60-2412SFW-P-Recom-Power-datasheet-67314772.pdf?src-supplier=Newark; ComponentLink1Description: https://datasheet.octopart.com/RPA60-2412SFW-P-Recom-Power-datasheet-67314772.pdf?src-supplier=Newark; ComponentLink2URL: https://www.recom-power.com/pdf/Powerline-DC-DC/RPA60-FW.pdf?src-supplier=Digikey; ComponentLink2Description: https://www.recom-power.com/pdf/Powerline-DC-DC/RPA60-FW.pdf?src-supplier=Digikey; ComponentLink3URL: https://datasheet.octopart.com/RPA60-2412SFW-P-Recom-Power-datasheet-68305293.pdf?src-supplier=Sager+Electronics; ComponentLink3Description: https://datasheet.octopart.com/RPA60-2412SFW-P-Recom-Power-datasheet-68305293.pdf?src-supplier=Sager+Electronics; Supplier Part Number 1: 945-2958-ND
footprint CONV_RPA60-2412SFW/P
pins: 1 +VIN (in), 2 -VIN (in), 3 CTRL (in), 4 TRIM, 5 -VOUT (out), 6 +VOUT (out)

## RQ200PFQTC10SRS-G
designator U?
-200V to +200V 10A EMI FILTER; Manufacturer: Synqor; Max DC Resistance: 70mΩ @ 100ºC; Differential Attenuation: >80dB @ 250kHz; Common attenuation: >50dB @ 250kHz; Manufacturer Part Number: RQ200PFQTC10SRS-G; Max Output Current: 10A; Max Input Voltage: +200V
footprint SYNQOR_EMI_FILTER
pins: 1 +VIN, 2 COMMON MODE IN, 3 -VIN, 4 -VOUT, 5 COMMON MODE OUT, 6 +VOUT

## RQ18050HPC36NRS-G
designator U?
9-36V 180W Rail Grade DC-DC Power Supply; Manufacturer: Synqor; Differential Attenuation: >80dB @ 250kHz; Common attenuation: >50dB @ 250kHz; Manufacturer Part Number: RQ18050HPC36NRS-G; Parameter 1: *
footprint SYNQOR_DC-DC_CONVERTER
pins: 1 +VIN, 2 ON/OFF, 3 -VIN, 4 -VOUT, 5 Vsense(-), 6 Trim, 7 Vsense(-), 8 +VOUT

## RT0805BRD0711K7L
designator R?
High Precision-High Stability Chip Resistor Thin Film 0805 11.7kOhm 0.1% Paper T/R; Manufacturer: Yageo; Supplier 1: Digikey; Manufacturer Part Number: RT0805BRD0711K7L; RoHS: Yes; Category: Chip SMD Resistors; Stock 1: 5000; Pricing 1: 5000=0.04185, 10000=0.03889 (USD); ComponentLink1URL: http://www.yageo.com/documents/recent/PYu-RT_1-to-0.01_RoHS_L_9.pdf?src-supplier=Digikey; ComponentLink1Description: http://www.yageo.com/documents/recent/PYu-RT_1-to-0.01_RoHS_L_9.pdf?src-supplier=Digikey; ComponentLink2URL: https://datasheet.octopart.com/RT0805BRD0711K7L-Yageo-datasheet-166250672.pdf?src-supplier=Future+Electronics; ComponentLink2Description: https://datasheet.octopart.com/RT0805BRD0711K7L-Yageo-datasheet-166250672.pdf?src-supplier=Future+Electronics; Supplier Part Number 1: 13-RT0805BRD0711K7LTR-ND
footprint RESC2012X60N
pins: 1, 2

## RT8059GJ5
designator IC?
Integrated Circuit; Manufacturer_Name: RICHTEK; Manufacturer_Part_Number: RT8059GJ5; Datasheet Link: http://www.farnell.com/datasheets/1756324.pdf; Height: 1mm
footprint SOT94P280X100-5N
pins: 1 EN, 2 GND, 3 LX, 4 VIN, 5 FB

## RX8025T-UC
designator RTC?
Manufacturer: Seiko; Supplier 1: LCSC; Manufacturer Part Number: RX8025T-UC; RoHS: No; Stock 1: 26023; Pricing 1: 1=1.2107, 10=1.0246, 30=0.9212, 100=0.8066, 500=0.708, 1000=0.6841 (USD); Supplier Part Number 1: C53691
footprint SOP14
pins: 1 T1, 2 SCL, 3 FOUT, 4 NC, 5 TEST, 6 VDD, 7 FOE, 8 NC, 9 NC, 10 INT#, 11 GND, 12 T2, 13 SDA, 14 NC

## RX-8025T
designator U?, comment RX-8025T/UC
IC,I2C-Bus Interface RTC Module,SMD,SOP14,Epson; RP1 Manufacturer P/N: XCRSE8025TIAD; Myir P/N: 20108.00003; RP1 Myir P/N: 20108.80003; PCB Footprint: SOP14; Datasheet: RX-8025T.pdf; Reserve Value: RX-8025T/UC; Manufacturer P/N: RX-8025T/UC; Manufacturer: Epson; Part Type: Clock
footprint SOP14
pins: 1 T1, 2 SCL, 3 FOUT, 4 NC (power), 5 TEST, 6 VDD, 7 FOE (power), 8 NC (power), 9 NC (power), 10 nINT, 11 GND, 12 T2, 13 SDA, 14 NC (power)

## S11-ZZ-0319
designator J?
Connector,RJ45 1X1,10/100/1000 Base-T,LED:L-Green; R-Yellow,Gold Flash,-40 ¡ãC~+85¡ãC,UDE; Myir P/N: 21118.00010; Part Type: ETH Connector; Manufacturer: UDE; Manufacturer P/N: S11-ZZ-0319; Reserve Value: S11-ZZ-0319; Datasheet: RJ45-UDE_S11-ZZ-0319(20130-00)-A.pdf; PCB Footprint: S11-ZZ-0319
footprint S11-ZZ-0319
pins: 1 TD1+, 2 TD1-, 3 TD2+, 4 TD2-, 5 CT1, 6 CT2, 7 TD3+, 8 TD3-, 9 TD4+, 10 TD4-, 11 YELLOW+, 12 YELLOW-, 13 GREEN+, 14 GREEN-, 15 GND1, 16 GND2

## SBAT54CLT1G
designator *
Rectifier Diode Schottky 0.2A 5ns Automotive 3-Pin SOT-23 T/R; Manufacturer: ON Semiconductor; Manufacturer Part Number: SBAT54CLT1G; Supplier 1: Digikey; RoHS: Yes; Category: Schottky Diodes; Stock 1: 69000; Pricing 1: 3000=0.06138, 6000=0.05694, 9000=0.04722, 30000=0.04638, 75000=0.04166, 150000=0.03611 (USD); ComponentLink1URL: https://datasheet.ciiva.com/8292/bat54clt1-d-8292853.pdf?src-supplier=Avnet; ComponentLink1Description: https://datasheet.ciiva.com/8292/bat54clt1-d-8292853.pdf?src-supplier=Avnet; ComponentLink2URL: https://datasheet.ciiva.com/908/bat54clt1-d-908339.pdf?src-supplier=Digikey; ComponentLink2Description: https://datasheet.ciiva.com/908/bat54clt1-d-908339.pdf?src-supplier=Digikey; Supplier Part Number 1: SBAT54CLT1GOSTR-ND

## SGM803-SX3NL/TR
designator U?, comment Manufacturer Part Number: SGM803-SXN3L/TR  (hidden comment: Active Low SOT-23 Monitors & Reset Circuits ROHS)
Order Code: LCSC: C99577; LCSC Manufacturer Part Number: SGM803-SXN3L/TR; LCSC Part Number: C99577
footprint SGMICRO_SOT23
pins: 1 GND, 2 RESET-N, 3 VIN

## SGM803-SX3NL/TR_1
designator U?, comment Manufacturer Part Number: SGM803-SXN3L/TR  (hidden comment: Active Low SOT-23 Monitors & Reset Circuits ROHS)
Order Code: LCSC: C99577; LCSC Manufacturer Part Number: SGM803-SXN3L/TR; LCSC Part Number: C99577
footprint SGMICRO_SOT23
pins: 1 GND, 2 RESET-N, 3 VIN

## SIM-SI62C
designator J?, comment SI62C-01200
Connector,SIM Card,6PIN With  post 1.27mm,H1.35mm,SMD; Manufacturer: Atom; Myir P/N: 21112.80001; PCB Footprint: SIM-SI62c-01200; Datasheet: SI62C-01200.pdf; Reserve Value: SI62C-01200; Manufacturer P/N: SI62C-01200; Part Type: Card Connector
footprint SIM-SI62c-01200
pins: 1 VCC, 2 RST, 3 CLK, 4 CD, 5 GND (power), 6 VPP, 7 I/O, 8 GND (power), 9 GND (power), 10 GND (power), 11 GND (power)
1 alternate drawing of the same symbol

## SKRAAME010
designator S?
Key,6.2mm Square with Middle-travel,0.5mm,50mA,12V DC,¨C40~£«90¡æ,1.96N,SMT,ALPS; Myir P/N: 21201.00008; PCB Footprint: SKRAAME010; Part Type: Key; Manufacturer: ALPS; Manufacturer P/N: SKRAAME010; Reserve Value: SKRAAME010; Datasheet: Connector\Key_ALPS_skra.pdf
footprint SKRAAME010 - duplicate
pins: 1, 2, 3, 4

## SM24CANB-02HTG_TVS
designator D?, comment Manufacturer Part Number: SM24CANB-02HTG  (hidden comment: CAN)
TVS DIODE 24VWM 50VC SOT23-3; Order Code: DIGI : F6707CT-ND; Value: 2Ch; LCSC Manufacturer Part Number: SM24CANB-02HTG; LCSC Part Number: C151237
footprint SOT23_3-DIODE (TO-236-3, SC-59, SOT-23-3)
pins: 1, 2, 3

## SM24CANB-02HTG_TVS_1
designator D?, comment P/N: SM24CANB-02HTG  (hidden comment: CAN)
TVS DIODE 24VWM 50VC SOT23-3; Order Code: DIGI : F6707CT-ND; Value: 2Ch; LCSC Part Number: C151237
footprint SOT23_3-DIODE (TO-236-3, SC-59, SOT-23-3)
pins: 1, 2, 3

## SM24CANB-02HTG_TVS_1_1
designator D?, comment P/N: SM24CANB-02HTG  (hidden comment: CAN)
TVS DIODE 24VWM 50VC SOT23-3; Order Code: DIGI : F6707CT-ND; Value: 2Ch; LCSC Part Number: C151237
footprint SOT23_3-DIODE (TO-236-3, SC-59, SOT-23-3)
pins: 1, 2, 3

## SM24CANB-02HTG_TVS_2
designator D?, comment Manufacturer Part Number: SM24CANB-02HTG  (hidden comment: CAN)
TVS DIODE 24VWM 50VC SOT23-3; Order Code: DIGI : F6707CT-ND; Value: 2Ch; LCSC Manufacturer Part Number: SM24CANB-02HTG; LCSC Part Number: C151237
footprint SOT23_3-DIODE (TO-236-3, SC-59, SOT-23-3)
pins: 1, 2, 3

## SM712-02HTG
designator D?  (value not drawn)
footprint Littelfuse_SM712_MFG
pins: 1, 2, 3

## SM8103ADC
designator U?
IC,High Efficiency,3.0A,18V Input Synchronous Step Down Regulator,SM8103ADC,SMD,TSOT23-6, Silergy; Myir P/N: 20103.00083; Part Type: Power Management; Manufacturer: Silergy; Manufacturer P/N: SM8103ADC; Reserve Value: SM8103ADC; Datasheet: SM8103ADC.pdf; PCB Footprint: SOT23-6
footprint SOT23-6
pins: 1 BS, 2 GND (power), 3 FB (out), 4 EN, 5 IN (in), 6 LX

## SMBJ40CA
designator D?
64.5V Clamp 9.3A Ipp Tvs Diode Surface Mount DO-214AA (SMBJ); Manufacturer: Littelfuse Inc.; Voltage - Breakdown (Min): 44.4V; Manufacturer Part Number: SMBJ40CA; Voltage - Clamping (Max) @ Ipp: 64.5V; Current - Peak Pulse (10/1000µs): 9.3A
footprint Littelfuse_Inc_SMBJ_MFG
pins: 1, 2

## SMCJ26A
designator D?  (value not drawn)
TVS Diode (Uni-directional); Manufacturer_Name: LITTELFUSE; Datasheet Link: http://www.littelfuse.com/products/tvs-diodes/surface-mount/~/media/electronics/datasheets/tvs_diodes/littelfuse_tvs_diode_smcj_datasheet.pdf.pdf; Height: 2.62mm; Manufacturer_Part_Number: SMCJ26A; Mouser Part Number: 576-SMCJ26A; Mouser Price/Stock: https://www.mouser.co.uk/ProductDetail/Littelfuse/SMCJ26A?qs=HR2RnyOI4E6Di4gw2MItQQ%3D%3D; Arrow Part Number: SMCJ26A; Arrow Price/Stock: https://www.arrow.com/en/products/smcj26a/littelfuse
footprint DIOM7959X262N
pins: 1 K, 2 A

## SMCJ54CA/TR13
designator D?  value 54VWM  (hidden comment: SMCJ54CA/TR13)
87.1V 60V 54V Bi-Directional SMC(DO-214AB) TVS ROHS; LCSC Manufacturer Part Number: SMCJ54CA/TR13; LCSC Part Number: C310062
footprint DO214AB (DIODE DO214AB)
pins: 1, 2

## SMCJ54CA/TR13_1
designator D?, comment value 54VWM  (hidden comment: SMCJ54CA/TR13)
87.1V 60V 54V Bi-Directional SMC(DO-214AB) TVS ROHS; LCSC Manufacturer Part Number: SMCJ54CA/TR13; LCSC Part Number: C310062
footprint DO214AB (DIODE DO214AB)
pins: 1, 2